# Altium footprint library BGA4C2X2X50P_117X117X42.PcbLib: 1 footprints
Each footprint in its own frame and in the unit in brackets; x right, y up, seen from the top. Pads: shape width x height; smd on the part's side, far side on the other; paste and mask are expansions set on the pad; w line width, h text height; cw(c..) or ccw(c..) is an arc to the next point about the centre after c.
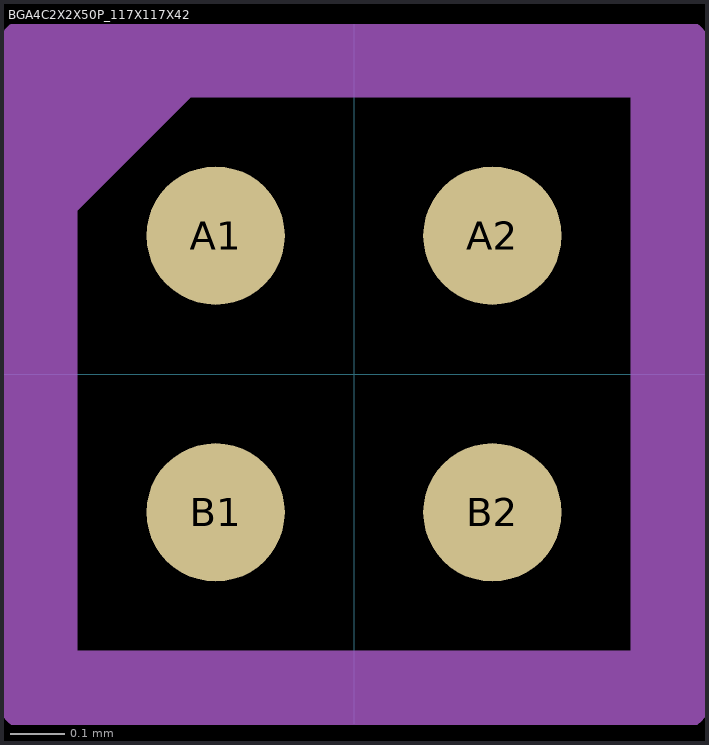
[diagram p0: the footprint, top view; thin cyan lines are the x and y axes]

## BGA4C2X2X50P_117X117X42 [mil]
pads (4):
  round 10 smd: A1(-10,10) A2(10,10) B1(-10,-10) B2(10,-10)
Mechanical 13:
  lines w6: -23,13 -13,23 ; -23,-23 23,-23 23,23 -23,23 -23,-23